# EAGLE library part IP4220CZ6 (library flashlight)
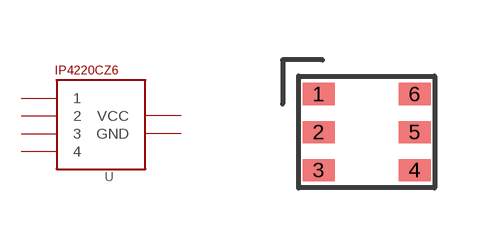
[diagram p4: symbol with the pads of SOT457; footprint SOT457]

Designator prefix -

## IP4220CZ6  [SOT457]
1  1
2  GND
3  2
4  3
5  VCC
6  4

## Footprint SOT457 (pad centres in mm)
smd 0.8 x 0.55: 1 -1.2,0.95; 2 -1.2,0; 3 -1.2,-0.95; 4 1.2,-0.95; 5 1.2,0; 6 1.2,0.95